# Altium footprint library PcbLib1.PcbLib: 35 footprints (part 2 of 3)
Each footprint in its own frame and in the unit in brackets; x right, y up, seen from the top. Pads: shape width x height; smd on the part's side, far side on the other; paste and mask are expansions set on the pad; w line width, h text height; cw(c..) or ccw(c..) is an arc to the next point about the centre after c.
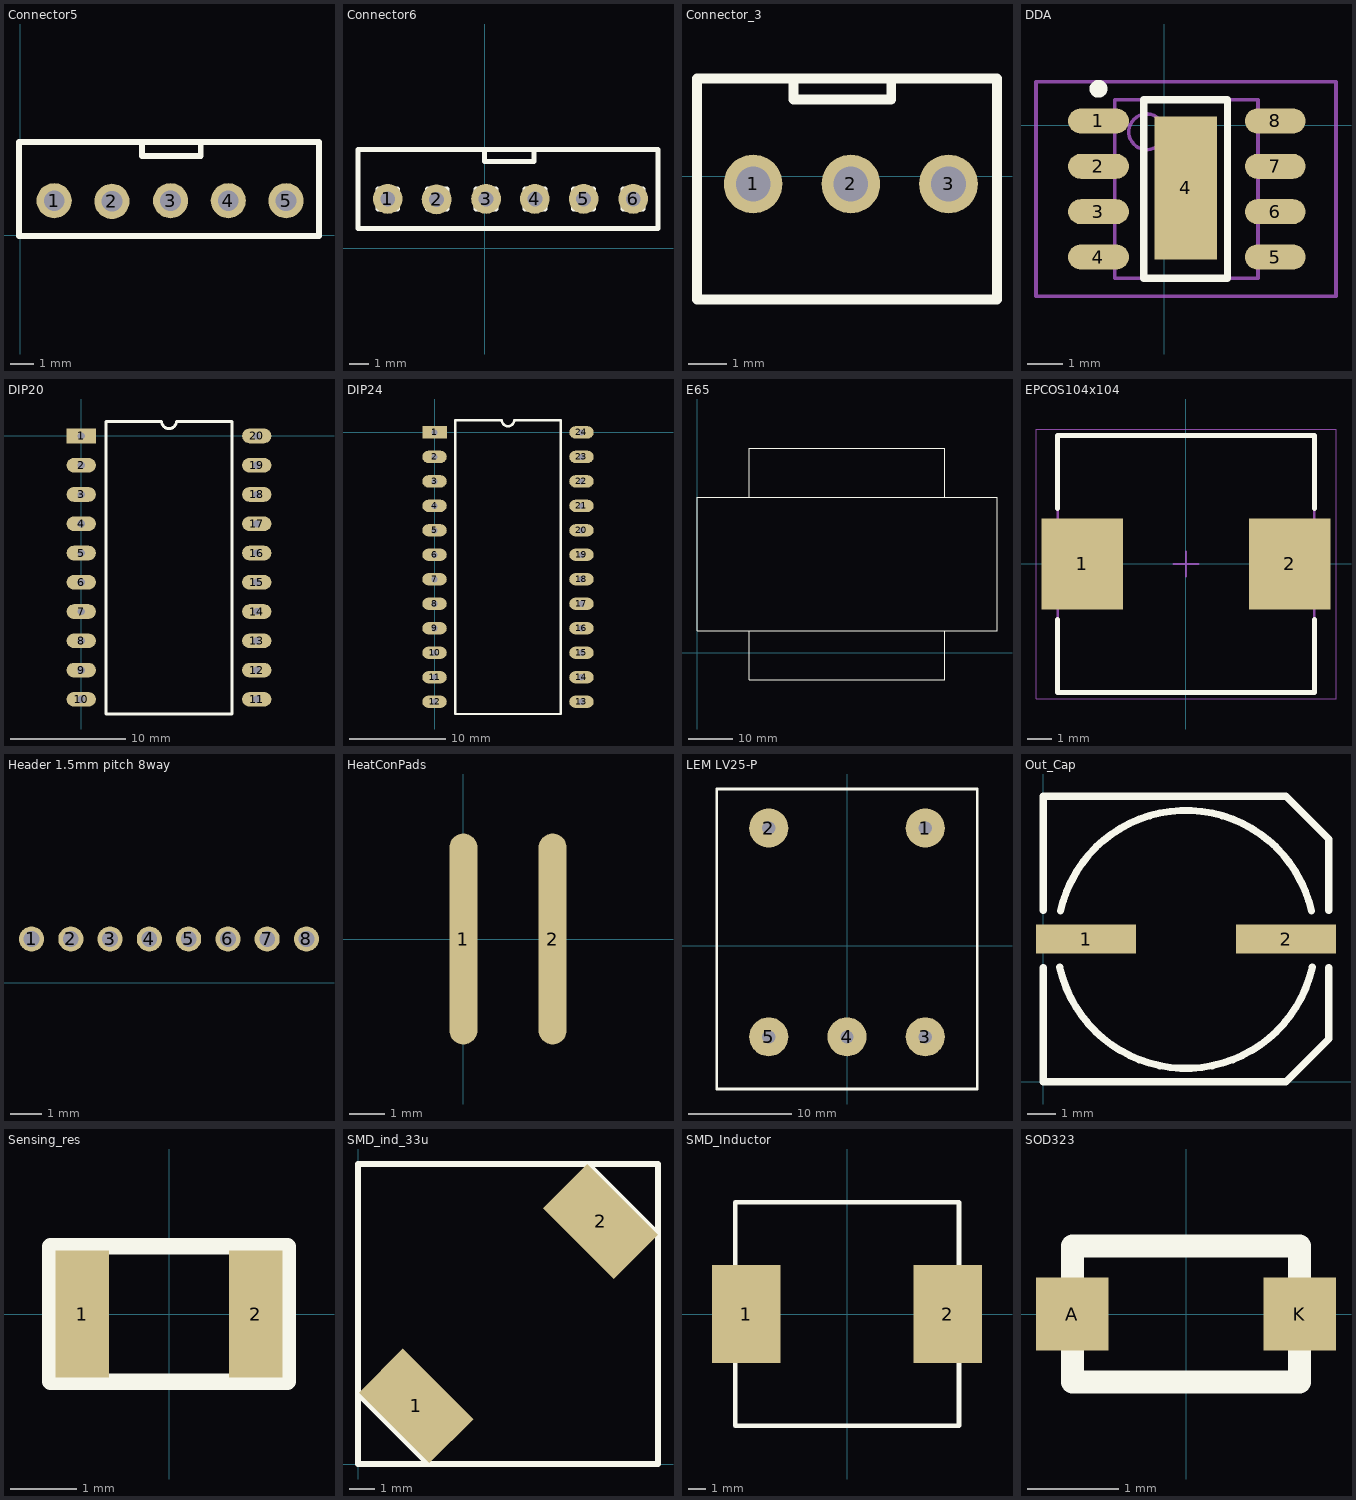
[diagram p1: the footprints below, top view; thin cyan lines are the x and y axes]

## Connector5 [mm]
pads (5):
  round 1.524 hole 0.9: 1(1.46,1.5) 2(3.962,1.473) 3(6.5,1.5) 4(9,1.5) 5(11.5,1.5)
Top Overlay:
  lines w0.254: 5.27,3.989 5.27,3.429 7.81,3.429 7.81,3.989 ; 5.525,-0.025 5.524,-0.024 ; 5.524,-0.024 -0.064,-0.024 -0.064,4.04 5.524,4.04 ; 5.524,-0.024 5.525,-0.025 8.433,-0.025 12.929,-0.025 12.929,3.581 12.929,4.039 5.525,4.039 ; 5.524,4.04 5.525,4.039 ; 5.524,4.04 5.525,4.039
3D body: height 1, standoff 0, extent -0.065,-0.026 12.929,4.041
3D body: height 0, standoff 0, extent 5.982,0.993 6.997,2.007
3D body: height 0, standoff 0, extent 3.493,0.993 4.507,2.007
3D body: height 0, standoff 0, extent 8.496,0.993 9.511,2.007
3D body: height 0, standoff 0, extent 10.986,0.993 12,2.007
3D body: height 7.62, standoff 0, extent 0.953,0.993 1.967,2.007
3D body: height 7.62, standoff 0, extent 3.493,0.993 4.507,2.007
3D body: height 10.16, standoff 0, extent 5.271,3.482 7.809,3.989
3D body: height 7.62, standoff 0, extent 5.982,0.993 6.997,2.007
3D body: height 7.62, standoff 0, extent 8.496,0.993 9.511,2.007
3D body: height 7.62, standoff 0, extent 10.986,0.993 12,2.007

## Connector6 [mil]
pads (6):
  round 60 hole 30 square: 1(-195.28,100) 2(-96.76,98.94)
  round 60 hole 30: 3(3.15,100) 4(101.57,100) 5(200,100) 6(300,100)
Top Overlay:
  lines w10: -35.28,200 -255.28,200 -255.28,40 -35.28,40 ; -35.24,39.96 -35.28,40 ; -35.22,199.94 350,199.94 350,39.94 79.24,39.94 -35.22,39.94 -35.28,40 ; 0,197.06 0,175 100,175 100,197.06 ; -215.28,80 -215.28,120 -175.28,120 -175.28,80 -215.28,80 ; -115.28,80 -75.28,80 -75.28,120 -115.28,120 -115.28,80 ; -17.28,80 -17.28,120 22.72,120 22.72,80 -17.28,80 ; 81.72,80 81.72,120 121.72,120 121.72,80 81.72,80 ; 179.72,80 179.72,120 219.72,120 219.72,80 179.72,80 ; 279.72,80 319.72,80 319.72,120 279.72,120 279.72,80
3D body: height 400, standoff 0, extent 0.02,177.08 99.98,197.04
3D body: height 300, standoff 0, extent 279.74,80.02 319.7,119.98
3D body: height 0, standoff 0, extent 279.74,80.02 319.7,119.98
3D body: height 0, standoff 0, extent -17.26,80.02 22.7,119.98
3D body: height 0, standoff 0, extent -115.26,80.02 -75.3,119.98
3D body: height 0, standoff 0, extent 81.74,80.02 121.7,119.98
3D body: height 0, standoff 0, extent 179.74,80.02 219.7,119.98
3D body: height 300, standoff 0, extent -215.26,80.02 -175.3,119.98
3D body: height 300, standoff 0, extent -115.26,80.02 -75.3,119.98
3D body: height 300, standoff 0, extent -17.26,80.02 22.7,119.98
3D body: height 300, standoff 0, extent 81.74,80.02 121.7,119.98
3D body: height 300, standoff 0, extent 179.74,80.02 219.7,119.98
3D body: height 39.37, standoff 0, extent -255.82,39.94 350,200.06

## Connector_3 [mm]
pads (3):
  round 1.524 hole 0.9: 1(-9.94,-0.2) 2(-7.4,-0.2) 3(-4.86,-0.2)
Top Overlay:
  lines w0.254: -8.89,2.54 -8.89,2 -6.35,2 -6.35,2.54 ; -11.4,-3.2 -3.6,-3.2 -3.6,2.54 -11.4,2.54 -11.4,-3.2
3D body: height 7.62, standoff 0, extent -5.368,-0.708 -4.353,0.307
3D body: height 7.62, standoff 0, extent -7.907,-0.708 -6.893,0.307
3D body: height 7.62, standoff 0, extent -10.447,-0.708 -9.433,0.307
3D body: height 0, standoff 0, extent -7.907,-0.708 -6.893,0.307
3D body: height 0, standoff 0, extent -5.368,-0.708 -4.353,0.307
3D body: height 7.62, standoff 0, extent -8.889,2.001 -6.351,2.539
3D body: height 2, standoff 0, extent -11.4,-3.2 -3.6,2.539

## DDA [mm]
pads (9):
  oval 1.7x0.7 smd: 1(-1.84,0.127) 2(-1.84,-1.143) 3(-1.84,-2.413) 4(-1.84,-3.683) 5(3.11,-3.683) 6(3.11,-2.413) 7(3.11,-1.143) 8(3.11,0.127)
  rect 1.75x4 smd: 4(0.6,-1.75)
Top Overlay:
  circle w0.25: c-1.84,1.027 r0.125
  lines w0.2: -0.575,-4.278 1.775,-4.278 1.775,0.722 -0.575,0.722 -0.575,-4.278
Mechanical 13:
  circle w0.1: c-0.49,-0.178 r0.5
  lines w0.1: -1.39,-4.278 2.625,-4.278 2.625,0.722 -1.39,0.722 -1.39,-4.278
Mechanical 15:
  lines w0.1: 0.11,-1.778 1.11,-1.778 ; 0.61,-2.278 0.61,-1.278 ; -3.59,-4.778 4.81,-4.778 4.81,1.222 -3.59,1.222 -3.59,-4.778
3D body: height 1.75, standoff 0, extent -1.39,-4.278 2.61,0.722

## DIP20 [mil]
pads (20):
  rect 100x50 hole 25: 1(0,0)
  oval 100x50 hole 25: 2(0,-100) 3(0,-200) 4(0,-300) 5(0,-400) 6(0,-500) 7(0,-600) 8(0,-700) 9(0,-800) 10(0,-900) 11(600,-900) 12(600,-800) 13(600,-700) 14(600,-600) 15(600,-500) 16(600,-400) 17(600,-300) 18(600,-200) 19(600,-100) 20(600,0)
Top Overlay:
  lines w10: 85,-950 85,50 275,50 ccw(c300,50) 325,50 515,50 515,-950 85,-950
3D body: height 50, standoff 0, extent 84.98,-950.02 515.02,50.02

## DIP24 [mil]
pads (24):
  rect 100x50 hole 25: 1(0,0)
  oval 100x50 hole 25: 2(0,-100) 3(0,-200) 4(0,-300) 5(0,-400) 6(0,-500) 7(0,-600) 8(0,-700) 9(0,-800) 10(0,-900) 11(0,-1000) 12(0,-1100) 13(600,-1100) 14(600,-1000) 15(600,-900) 16(600,-800) 17(600,-700) 18(600,-600) 19(600,-500) 20(600,-400) 21(600,-300) 22(600,-200) 23(600,-100) 24(600,0)
Top Overlay:
  lines w10: 85,-1150 515,-1150 515,50 325,50 cw(c300,50) 275,50 85,50 85,-1150
3D body: height 196.85, standoff 0, extent 84.98,-1150.02 515.02,50.02

## E65 [mil]
Top Overlay:
  lines w10: 462.6,196.85 462.6,-236.22 2194.88,-236.22 2194.88,196.85 ; 462.6,1377.95 462.6,1811.02 2194.88,1811.02 2194.88,1377.95 ; 0,196.85 0,1377.95 2657.48,1377.95 2657.48,196.85 0,196.85

## EPCOS104x104 [mm] "Precision Wire Wound Inductor, 2-Leads, Body 10,40x10,40mm, IPC Medium Density"
height 4.8
pads (2):
  rect 3.3x3.7 smd: 1(-4.2,0) 2(4.2,0)
Top Overlay:
  lines w0.2: -5.2,-2.25 -5.2,-5.2 5.2,-5.2 5.2,-2.25 ; -5.2,2.25 -5.2,5.2 5.2,5.2 5.2,2.25
Mechanical 13:
  lines w0.1: -5.2,-5.2 -5.2,5.2 5.2,5.2 5.2,-5.2 -5.2,-5.2
Mechanical 15:
  lines w0.05: -6.075,-5.45 -6.075,5.45 6.075,5.45 6.075,-5.45 -6.075,-5.45
  lines w0.1: -0.5,0 0.5,0 ; 0,-0.5 0,0.5
3D body "User Library-B82464G4.step": height 4.81, standoff 0, extent -5.2,-5.2 5.2,5.2

## Header 1.5mm pitch 8way [mm]
pads (8):
  round 0.8 hole 0.5: 1(1.925,1.4) 2(3.175,1.4) 3(4.425,1.4) 4(5.675,1.4) 5(6.925,1.4) 6(8.175,1.4) 7(9.425,1.4) 8(10.675,1.4)
3D body "User Library-molex 53047.step": height 4.2, standoff -2.2, extent 0.45,-0.65 12.2,2.55

## HeatConPads [mm]
pads (2):
  oval 0.8x6 smd: 1(0,0) 2(2.54,0)

## LEM LV25-P [mil]
height 600
pads (5):
  round 150 hole 50: 1(300,450) 2(-300,450) 3(300,-350) 4(0,-350) 5(-300,-350)
Top Overlay:
  lines w10: -500,-550 500,-550 500,600 -500,600 -500,-550
3D body: height 600, standoff 0, extent -499.98,-524.98 499.98,624.98

## Out_Cap [mm]
pads (2):
  rect 3.5x1 smd: 1(1.5,5) 2(8.5,5)
Top Overlay:
  lines w0.254: 0,4 0,0 8.5,0 10,1.5 10,4 ; 0,6 0,10 8.5,10 10,8.5 10,6 ; 0.58,4.018 ccw(c5,5) 9.42,4.018 ; 0.607,5.976 cw(c5,5) 9.393,5.976
3D body: height 2, standoff 0, extent -0.001,-0.001 10.001,10.001
3D body: height 10, standoff 0, extent 0.501,0.501 9.499,9.499

## Sensing_res [mm]
pads (2):
  rect 0.8x1.9 smd: 1(-1.3,0) 2(1.3,0)
Top Overlay:
  lines w0.254: -1.778,-1.016 1.778,-1.016 1.778,1.016 -1.778,1.016 -1.778,-1.016
3D body: height 0.7, standoff 0, extent -1.777,-1.015 1.777,1.015

## SMD_ind_33u [mm]
pads (2):
  rect 4x2.5 smd rot 135: 1(2.325,2.325) 2(9.7,9.7)
Top Overlay:
  lines w0.254: 2.9,0 2.825,0 0,2.825 0,0 ; 9.1,12 9.175,12 12,9.175 12,12 ; 0,0 12,0 12,12 ; 0,0 0,12 12,12

## SMD_Inductor [mm]
pads (2):
  rect 3.85x5.5 smd: 1(-5.65,0) 2(5.625,0)
Top Overlay:
  lines w0.254: -6.25,-6.25 -6.25,6.25 6.25,6.25 6.25,-6.25 -6.25,-6.25
3D body: height 6, standoff 0, extent -6.249,-6.249 6.249,6.249

## SOD323 [mm]
pads (2):
  rect 0.8x0.8 smd: A(-1.25,0) K(1.25,0)
Top Overlay:
  lines w0.254: -1.25,-0.75 1.25,-0.75 1.25,0.75 1,0.75 -1.25,0.75 -1.25,-0.75
3D body: height 1, standoff 0, extent -1.249,-0.749 1.249,0.749